# Altium schematic symbol library dungvh03-CERN_Logic.SchLib: 486 symbols (part 20 of 54)
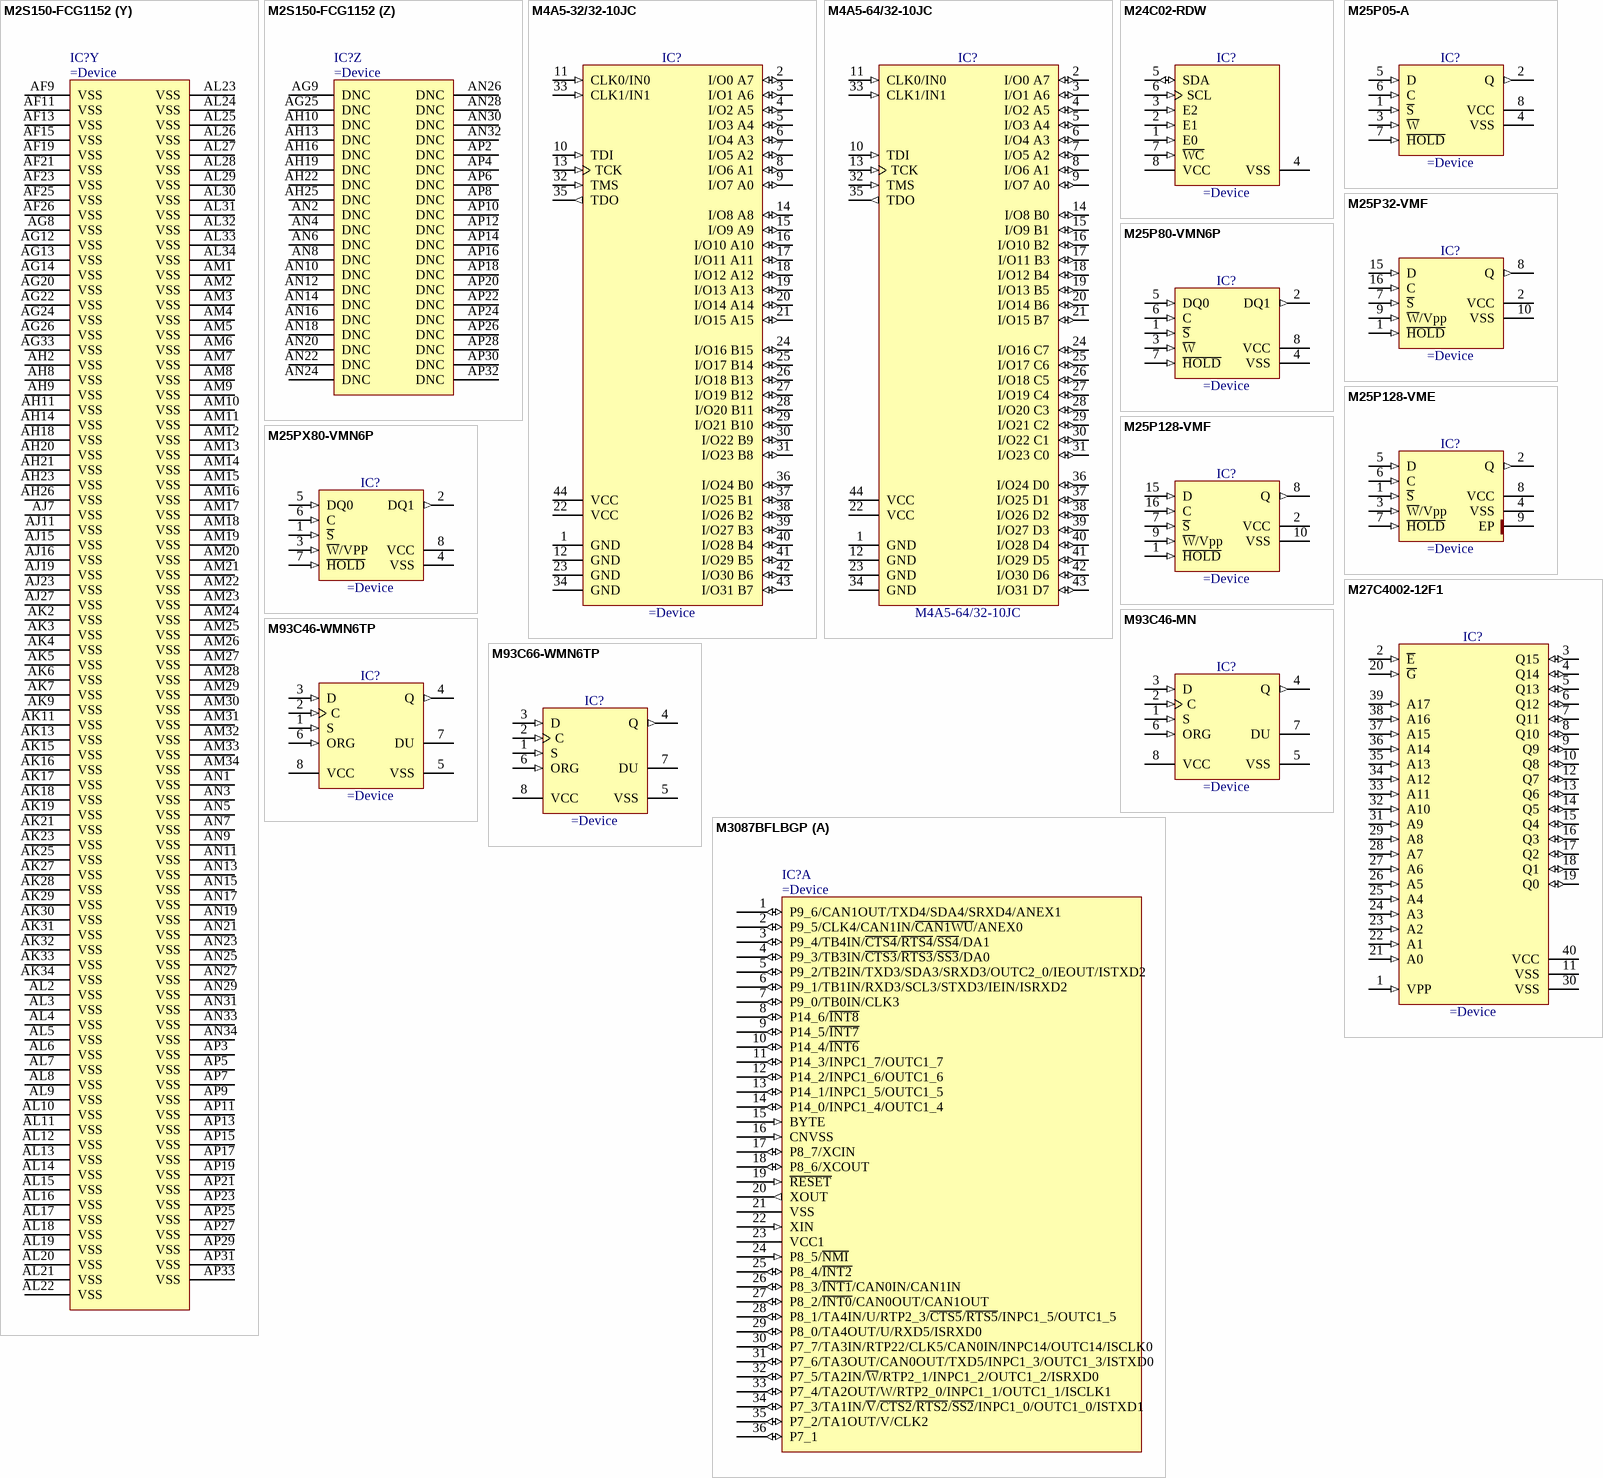
[diagram p280: symbols M2S150-FCG1152 to M3087BFLBGP]
## M2S150-FCG1152
designator IC?
SmartFusion 2 SoC FPGA, ARM Cortex-M3, 150 K LUTs, 574 User I/O, Design Security, 0 to 85 degC, 1152-Ball BGA, RoHS
part A pins: E32 MSIO172NB0 (io) "MSIOs provide programmable drive strength, weak pull-up, and weak-pulldown.In single ended mode, the I/O pair operates as two separate I/Os named P and N. Some of these pins are also multiplexed with integrated peripherals (See Datasheet)", F32 MSIO172PB0/GB0/CCC_NW0_CLKI3 (io), G30 MSIO171PB0/GB4/CCC_NW1_CLKI2 (io), G31 MSIO175NB0 (io) "MSIOs provide programmable drive strength, weak pull-up, and weak-pulldown.In single ended mode, the I/O pair operates as two separate I/Os named P and N. Some of these pins are also multiplexed with integrated peripherals (See Datasheet)", H29 MSIO171NB0 (io) "MSIOs provide programmable drive strength, weak pull-up, and weak-pulldown.In single ended mode, the I/O pair operates as two separate I/Os named P and N. Some of these pins are also multiplexed with integrated peripherals (See Datasheet)", H31 MSIO175PB0 (io) "MSIOs provide programmable drive strength, weak pull-up, and weak-pulldown.In single ended mode, the I/O pair operates as two separate I/Os named P and N. Some of these pins are also multiplexed with integrated peripherals (See Datasheet)", J28 MSIO170NB0 (io) "MSIOs provide programmable drive strength, weak pull-up, and weak-pulldown.In single ended mode, the I/O pair operates as two separate I/Os named P and N. Some of these pins are also multiplexed with integrated peripherals (See Datasheet)", J29 MSIO170PB0/CCC_NW1_CLKI3 (io), K27 MSIO173PB0/CCC_NW0_CLKI2 (io), K28 MSIO173NB0 (io) "MSIOs provide programmable drive strength, weak pull-up, and weak-pulldown.In single ended mode, the I/O pair operates as two separate I/Os named P and N. Some of these pins are also multiplexed with integrated peripherals (See Datasheet)", L25 MSIO174PB0 (io) "MSIOs provide programmable drive strength, weak pull-up, and weak-pulldown.In single ended mode, the I/O pair operates as two separate I/Os named P and N. Some of these pins are also multiplexed with integrated peripherals (See Datasheet)", L26 MSIO174NB0 (io) "MSIOs provide programmable drive strength, weak pull-up, and weak-pulldown.In single ended mode, the I/O pair operates as two separate I/Os named P and N. Some of these pins are also multiplexed with integrated peripherals (See Datasheet)"
part B pins: A18 DDRIO126NB1/FDDR_ADDR15 (io), A19 DDRIO130PB1/FDDR_ODT (io), A21 DDRIO140PB1/FDDR_DQ30 (io), A23 DDRIO141PB1/FDDR_DQ28 (io), A25 DDRIO147PB1/FDDR_DQ21 (io), A27 DDRIO148PB1/FDDR_DM_RDQS2 (io), A29 DDRIO162PB1/FDDR_DQ2 (io), A31 DDRIO164PB1/FDDR_DQ_ECC1 (io), A33 DDRIO165PB1/FDDR_DQ_ECC3 (io), B18 DDRIO126PB1/FDDR_ADDR14 (io), B19 DDRIO130NB1/FDDR_ADDR7 (io), B21 DDRIO140NB1/FDDR_DQ31 (io), B23 DDRIO141NB1/FDDR_DQ29 (io), B25 DDRIO147NB1/FDDR_DQ22 (io), B27 DDRIO148NB1/FDDR_DQ20 (io), B29 DDRIO162NB1/FDDR_DQ3 (io), B31 DDRIO164NB1/FDDR_DQ_ECC0 (io), B33 DDRIO165NB1/FDDR_DQ_ECC2 (io), C19 DDRIO131NB1/FDDR_ADDR6 (io), C20 DDRIO134NB1/FDDR_ADDR0 (io), C21 DDRIO143NB1/FDDR_DQS3_N (io), C22 DDRIO143PB1/FDDR_DQS3 (io), C23 DDRIO144NB1/FDDR_DQ27 (io), C24 DDRIO144PB1/FDDR_DQ26 (io), C25 DDRIO146PB1/FDDR_DQ23 (io), C26 DDRIO149NB1/FDDR_DQS2_N (io), C27 DDRIO151NB1/FDDR_DQ17 (io), C28 DDRIO151PB1/FDDR_DQ16 (io), C29 DDRIO161NB1/FDDR_DQS0_N (io), C30 DDRIO161PB1/FDDR_DQS0 (io), C31 DDRIO167NB1/FDDR_DQS_ECC_N (io), C32 DDRIO167PB1/FDDR_DQS_ECC (io), D18 DDRIO127PB1/FDDR_ADDR12 (io), D19 DDRIO131PB1/FDDR_ADDR5 (io), D20 DDRIO134PB1/FDDR_BA2 (io), D22 DDRIO145PB1/FDDR_DQ24 (io), D24 DDRIO146NB1/FDDR_TMATCH_1_OUT (io), D26 DDRIO149PB1/FDDR_DQS2 (io), D28 DDRIO159PB1/FDDR_DQ5 (io), D30 DDRIO163NB1/FDDR_DQ1 (io), D32 DDRIO169NB1 (io) "The double data input output (DDRIO) is a multi-standard I/O optimized for LPDDR/DDR2/DDR3 performance. In SmartFusion2 devices there are two DDR subsystems: the fabric DDR and MSS DDR controllers. All DDRIOs can be (See Datasheet)", E18 DDRIO127NB1/FDDR_ADDR13 (io), E20 DDRIO136PB1/FDDR_CLK (io), E22 DDRIO145NB1/FDDR_DQ25 (io), E24 DDRIO142PB1/FDDR_TMATCH_1_IN (io), E26 DDRIO150NB1/FDDR_DQ19 (io), E28 DDRIO159NB1/FDDR_DQ6 (io), E30 DDRIO163PB1/FDDR_DQ0 (io), E31 DDRIO169PB1/FDDR_TMATCH_ECC_OUT (io), F18 DDRIO128NB1/FDDR_ADDR11 (io), F19 DDRIO132NB1/FDDR_ADDR4 (io), F20 DDRIO136NB1/FDDR_CLK_N (io), F21 DDRIO137NB1/FDDR_CAS_N (io), F22 DDRIO137PB1/FDDR_RESET_N (io), F23 DDRIO155PB1/FDDR_DQS1 (io), F24 DDRIO142NB1/FDDR_DM_RDQS3 (io), F25 DDRIO152PB1/FDDR_DQ14 (io), F26 DDRIO150PB1/FDDR_DQ18 (io), F27 DDRIO158NB1/FDDR_TMATCH_0_OUT (io), F28 DDRIO158PB1/FDDR_DQ7 (io), F29 DDRIO160NB1/FDDR_DQ4 (io), F30 DDRIO166NB1/FDDR_DM_RDQS_ECC (io), F31 DDRIO166PB1/FDDR_TMATCH_ECC_IN (io), G18 DDRIO129NB1/FDDR_ADDR9 (io), G19 DDRIO128PB1/FDDR_ADDR10 (io), G20 DDRIO132PB1/FDDR_ADDR3 (io), G21 DDRIO135PB1/FDDR_BA0 (io), G23 DDRIO155NB1/FDDR_DQS1_N (io), G25 DDRIO152NB1/FDDR_DQ15 (io), G27 DDRIO154PB1/FDDR_TMATCH_0_IN (io), G29 DDRIO160PB1/FDDR_DM_RDQS0 (io), H18 DDRIO129PB1/FDDR_ADDR8 (io), H20 DDRIO135NB1/FDDR_BA1 (io), H21 DDRIO138NB1/FDDR_CS_N (io), H23 DDRIO157NB1/FDDR_DQ9 (io), H25 DDRIO156NB1/FDDR_DQ11 (io), H27 DDRIO154NB1/FDDR_DM_RDQS1 (io), J19 DDRIO133NB1/FDDR_ADDR2 (io), J20 DDRIO139PB1/FDDR_RAS_N (io), J21 DDRIO138PB1/FDDR_CKE (io), J22 DDRIO153NB1/FDDR_DQ13 (io), J23 DDRIO153PB1/FDDR_DQ12 (io), J24 DDRIO157PB1/FDDR_DQ8 (io), J25 DDRIO156PB1/FDDR_DQ10 (io), J26 DDRIO168NB1 (io) "The double data input output (DDRIO) is a multi-standard I/O optimized for LPDDR/DDR2/DDR3 performance. In SmartFusion2 devices there are two DDR subsystems: the fabric DDR and MSS DDR controllers. All DDRIOs can be (See Datasheet)", J27 DDRIO168PB1 (io) "The double data input output (DDRIO) is a multi-standard I/O optimized for LPDDR/DDR2/DDR3 performance. In SmartFusion2 devices there are two DDR subsystems: the fabric DDR and MSS DDR controllers. All DDRIOs can be (See Datasheet)", K19 DDRIO133PB1/FDDR_ADDR1 (io), K20 DDRIO139NB1/FDDR_WE_N (io)
part C pins: A2 DDRIO82PB2/MDDR_ADDR14 (io), A3 DDRIO86NB2/MDDR_ADDR7 (io), A5 DDRIO88NB2/MDDR_ADDR4 (io), A6 DDRIO87PB2/MDDR_ADDR5 (io), A8 DDRIO97PB2/MDDR_DQ28 (io), A10 DDRIO101PB2/MDDR_DQ24 (io), A12 DDRIO112PB2/MDDR_DQ10 (io), A14 DDRIO115PB2/MDDR_DQ5 (io), A16 DDRIO119PB2/MDDR_DQ0 (io), B2 DDRIO82NB2/MDDR_ADDR15 (io), B3 DDRIO86PB2/MDDR_ODT (io), B4 DDRIO88PB2/MDDR_ADDR3 (io), B5 DDRIO87NB2/MDDR_ADDR6 (io), B6 DDRIO89PB2/MDDR_ADDR1 (io), B8 DDRIO97NB2/MDDR_DQ29 (io), B10 DDRIO101NB2/MDDR_DQ25 (io), B12 DDRIO112NB2/MDDR_DQ11 (io), B14 DDRIO115NB2/MDDR_DQ6 (io), B16 DDRIO119NB2/MDDR_DQ1 (io), C1 DDRIO84NB2/MDDR_ADDR11 (io), C2 DDRIO84PB2/MDDR_ADDR10 (io), C4 DDRIO83NB2/MDDR_ADDR13 (io), C5 DDRIO92PB2/MDDR_CLK (io), C6 DDRIO89NB2/MDDR_ADDR2 (io), C7 DDRIO96PB2/MDDR_DQ30 (io), C8 DDRIO99NB2/MDDR_DQS3_N (io), C9 DDRIO99PB2/MDDR_DQS3 (io), C10 DDRIO100PB2/MDDR_DQ26 (io), C11 DDRIO111NB2/MDDR_DQS1_N (io), C12 DDRIO111PB2/MDDR_DQS1 (io), C13 DDRIO113PB2/MDDR_DQ8 (io), C14 DDRIO117NB2/MDDR_DQS0_N (io), C15 DDRIO117PB2/MDDR_DQS0 (io), C16 DDRIO118PB2/MDDR_DQ2 (io), C17 DDRIO121PB2/MDDR_DQ_ECC3 (io), D2 DDRIO85NB2/MDDR_ADDR9 (io), D3 DDRIO85PB2/MDDR_ADDR8 (io), D4 DDRIO83PB2/MDDR_ADDR12 (io), D5 DDRIO92NB2/MDDR_CLK_N (io), D7 DDRIO96NB2/MDDR_DQ31 (io), D9 DDRIO100NB2/MDDR_DQ27 (io), D11 DDRIO109PB2/MDDR_DQ12 (io), D13 DDRIO113NB2/MDDR_DQ9 (io), D15 DDRIO118NB2/MDDR_DQ3 (io), D17 DDRIO121NB2/MDDR_DQ_ECC2 (io), E5 DDRIO91PB2/MDDR_BA0 (io), E6 DDRIO90NB2/MDDR_ADDR0 (io), E7 DDRIO95PB2/MDDR_RAS_N (io), E9 DDRIO98PB2/MDDR_TMATCH_1_IN (io), E11 DDRIO109NB2/MDDR_DQ13 (io), E13 DDRIO114NB2/MDDR_TMATCH_0_OUT (io), E15 DDRIO116NB2/MDDR_DQ4 (io), E17 DDRIO123NB2/MDDR_DQS_ECC_N (io), F5 DDRIO91NB2/MDDR_BA1 (io), F6 DDRIO90PB2/MDDR_BA2 (io), F7 DDRIO95NB2/MDDR_WE_N (io), F8 DDRIO98NB2/MDDR_DM_RDQS3 (io), F9 DDRIO102NB2/MDDR_TMATCH_1_OUT (io), F10 DDRIO108NB2/MDDR_DQ15 (io), F11 DDRIO108PB2/MDDR_DQ14 (io), F12 DDRIO110NB2/MDDR_DM_RDQS1 (io), F13 DDRIO110PB2/MDDR_TMATCH_0_IN (io), F14 DDRIO114PB2/MDDR_DQ7 (io), F15 DDRIO116PB2/MDDR_DM_RDQS0 (io), F16 DDRIO120PB2/MDDR_DQ_ECC1/GB12/CCC_NE1_CLKI2 (io), F17 DDRIO123PB2/MDDR_DQS_ECC (io), G7 DDRIO93NB2/MDDR_CAS_N (io), G8 DDRIO93PB2/MDDR_RESET_N (io), G10 DDRIO102PB2/MDDR_DQ23 (io), G12 DDRIO105PB2/MDDR_DQS2 (io), G14 DDRIO107PB2/MDDR_DQ16 (io), G16 DDRIO120NB2/MDDR_DQ_ECC0/CCC_NE1_CLKI3 (io), H8 DDRIO94PB2/MDDR_CKE (io), H10 DDRIO103PB2/MDDR_DQ21 (io), H12 DDRIO105NB2/MDDR_DQS2_N (io), H14 DDRIO107NB2/MDDR_DQ17 (io), H16 DDRIO122PB2/MDDR_TMATCH_ECC_IN (io), J9 DDRIO94NB2/MDDR_CS_N (io), J10 DDRIO103NB2/MDDR_DQ22 (io), J11 DDRIO104NB2/MDDR_DQ20 (io), J12 DDRIO104PB2/MDDR_DM_RDQS2 (io), J13 DDRIO106NB2/MDDR_DQ19 (io), J14 DDRIO106PB2/MDDR_DQ18 (io), J15 DDRIO122NB2/MDDR_DM_RDQS_ECC (io), J16 DDRIO125PB2/MDDR_TMATCH_ECC_OUT (io), J17 DDRIO124NB2/GB8/CCC_NE0_CLKI3 (io), J18 DDRIO124PB2/CCC_NE0_CLKI2 (io), K17 DDRIO125NB2 (io) "The double data input output (DDRIO) is a multi-standard I/O optimized for LPDDR/DDR2/DDR3 performance. In SmartFusion2 devices there are two DDR subsystems: the fabric DDR and MSS DDR controllers. All DDRIOs can be (See Datasheet)"
part D pins: D1 MSIO62NB3/USB_NXT_D (io), E1 MSIO62PB3/USB_STP_D (io), E2 MSIO74PB3/USB_XCLK_C (io), E3 MSIO74NB3/MMUART_1_TXD/GPIO_24_B/USB_DATA2_C (io), F2 MSIO73PB3/MMUART_1_RI/GPIO_15_B (io), F3 MSIO73NB3/MMUART_1_DCD/GPIO_16_B (io), F4 MSIO79PB3 (io) "MSIOs provide programmable drive strength, weak pull-up, and weak-pulldown.In single ended mode, the I/O pair operates as two separate I/Os named P and N. Some of these pins are also multiplexed with integrated peripherals (See Datasheet)", G1 MSIO61NB3/USB_DIR_D (io), G2 MSIO69PB3/GPIO_7_B (io), G3 MSIO69NB3/GPIO_8_B (io), G5 MSIO79NB3/MMUART_0_TXD/GPIO_27_B/USB_DIR_C (io), H1 MSIO61PB3/USB_XCLK_D (io), H3 MSIO70PB3/GPIO_9_B (io), H4 MSIO70NB3/GPIO_10_B (io), H5 MSIO77PB3/MMUART_0_CTS/GPIO_19_B/USB_DATA7_C (io), H6 MSIO77NB3/MMUART_0_DSR/GPIO_20_B (io), H7 MSIO80PB3/MMUART_0_RXD/GPIO_28_B/USB_STP_C (io), J3 MSIO65PB3/USB_DATA4_D (io), J4 MSIO65NB3/USB_DATA5_D (io), J6 MSIO78PB3/MMUART_0_RI/GPIO_21_B (io), J7 MSIO78NB3/MMUART_0_DCD/GPIO_22_B (io), J8 MSIO80NB3/MMUART_0_CLK/GPIO_29_B/USB_NXT_C (io), K4 MSIO66PB3/USB_DATA6_D (io), K5 MSIO66NB3/USB_DATA7_D/GPIO_23_B (io), K6 MSIO72PB3/GPIO_13_B/MMUART_1_CTS (io), K7 MSIO72NB3/MMUART_1_DSR/GPIO_14_B (io), K9 MSIO81PB3/I2C_0_SDA/GPIO_30_B/USB_DATA0_C (io), K10 MSIO81NB3/I2C_0_SCL/GPIO_31_B/USB_DATA1_C (io), L7 MSIO68PB3/GPIO_5_B (io), L8 MSIO68NB3/GPIO_6_B (io), L9 MSIO75PB3/MMUART_1_CLK/GPIO_25_B/USB_DATA4_C (io), L10 MSIO75NB3/MMUART_1_RXD/GPIO_26_B/USB_DATA3_C (io), M8 MSIO63NB3/USB_DATA1_D (io), M10 MSIO76PB3/MMUART_0_RTS/GPIO_17_B/USB_DATA5_C (io), M11 MSIO76NB3/MMUART_0_DTR/GPIO_18_B/USB_DATA6_C (io), N8 MSIO63PB3/USB_DATA0_D (io), N9 MSIO67PB3/GPIO_3_B (io), N10 MSIO67NB3/GPIO_4_B (io), N11 MSIO71NB3/MMUART_1_DTR/GPIO_12_B (io), N12 MSIO71PB3/MMUART_1_RTS/GPIO_11_B (io), P11 MSIO64NB3/USB_DATA3_D (io), P12 MSIO64PB3/USB_DATA2_D (io)
part E pins: J1 MSIO56PB4/SPI_0_SS3/GPIO_10_A/USB_DATA7_A (io), J2 MSIO56NB4/SPI_1_SS1/GPIO_14_A (io), K1 MSIO47PB4/SPI_0_SDO/GPIO_6_A/USB_STP_A (io), K2 MSIO47NB4/SPI_0_SS0/GPIO_7_A/USB_NXT_A (io), L2 MSIO51PB4/SPI_1_SDO/GPIO_12_A (io), L3 MSIO51NB4/SPI_1_SS0/GPIO_13_A (io), L4 MSIO59PB4/GPIO_31_A (io), L5 MSIO59NB4/GPIO_0_B (io), M1 MSIO40NB4 (io) "MSIOs provide programmable drive strength, weak pull-up, and weak-pulldown.In single ended mode, the I/O pair operates as two separate I/Os named P and N. Some of these pins are also multiplexed with integrated peripherals (See Datasheet)", M2 MSIO48PB4/SPI_0_SS4/GPIO_19_A (io), M3 MSIO48NB4/SPI_0_SS5/GPIO_20_A (io), M5 MSIO55NB4/SPI_0_SS2/GPIO_9_A/USB_DATA6_A (io), M6 MSIO60PB4/GPIO_1_B (io), M7 MSIO60NB4/GPIO_2_B (io), N1 MSIO40PB4/CCC_NE1_CLKI1 (io), N3 MSIO49NB4/SPI_0_SS7/GPIO_22_A (io), N4 MSIO49PB4/SPI_0_SS6/GPIO_21_A (io), N5 MSIO55PB4/SPI_0_SS1/GPIO_8_A/USB_DATA5_A (io), N6 MSIO53NB4/SPI_1_SS7/GPIO_24_A (io), P1 MSIO39PB4/CCC_NE0_CLKI1 (io), P2 MSIO39NB4 (io) "MSIOs provide programmable drive strength, weak pull-up, and weak-pulldown.In single ended mode, the I/O pair operates as two separate I/Os named P and N. Some of these pins are also multiplexed with integrated peripherals (See Datasheet)", P3 MSIO43PB4 (io) "MSIOs provide programmable drive strength, weak pull-up, and weak-pulldown.In single ended mode, the I/O pair operates as two separate I/Os named P and N. Some of these pins are also multiplexed with integrated peripherals (See Datasheet)", P4 MSIO43NB4/CAN_TX/GPIO_2_A/USB_DATA0_A (io), P6 MSIO53PB4/SPI_1_SS6/GPIO_23_A (io), P7 MSIO52NB4/SPI_1_SS5/GPIO_18_A (io), P8 MSIO58PB4/GPIO_29_A (io), P9 MSIO58NB4/GPIO_30_A (io), R5 MSIO44PB4/CAN_RX/GPIO_3_A/USB_DATA1_A (io), R6 MSIO44NB4/CAN_TX_EN_N/GPIO_4_A/USB_DATA2_A (io), R7 MSIO52PB4/SPI_1_SS4/GPIO_17_A (io), R9 MSIO54PB4/GPIO_25_A (io), R10 MSIO54NB4/GPIO_26_A (io), R11 MSIO57NB4/SPI_1_SS3/GPIO_16_A (io), R12 MSIO57PB4/SPI_1_SS2/GPIO_15_A (io), T7 MSIO41NB4 (io) "MSIOs provide programmable drive strength, weak pull-up, and weak-pulldown.In single ended mode, the I/O pair operates as two separate I/Os named P and N. Some of these pins are also multiplexed with integrated peripherals (See Datasheet)", T8 MSIO45NB4/I2C_1_SCL/GPIO_1_A/USB_DATA4_A (io), T9 MSIO45PB4/I2C_1_SDA/GPIO_0_A/USB_DATA3_A (io), T10 MSIO50NB4/SPI_1_SDI/GPIO_11_A (io), T11 MSIO50PB4/SPI_1_CLK (io), T12 MSIO46NB4/SPI_0_SDI/GPIO_5_A/USB_DIR_A (io), U7 MSIO41PB4/GB10/CCC_SE0_CLKI1 (io), U10 MSIO42PB4/GB14/CCC_SE1_CLKI1 (io), U11 MSIO42NB4 (io) "MSIOs provide programmable drive strength, weak pull-up, and weak-pulldown.In single ended mode, the I/O pair operates as two separate I/Os named P and N. Some of these pins are also multiplexed with integrated peripherals (See Datasheet)", U12 MSIO46PB4/SPI_0_CLK/USB_XCLK_A (io)
part F pins: R1 MSIO32PB5/USB_DATA4_B (io), R2 MSIO32NB5/USB_DATA5_B (io), R4 MSIO38NB5 (io) "MSIOs provide programmable drive strength, weak pull-up, and weak-pulldown.In single ended mode, the I/O pair operates as two separate I/Os named P and N. Some of these pins are also multiplexed with integrated peripherals (See Datasheet)", T2 MSIO31PB5/USB_DATA2_B (io), T3 MSIO31NB5/USB_DATA3_B (io), T4 MSIO38PB5/GB13/CCC_SE1_CLKI0 (io), T5 MSIO37NB5 (io) "MSIOs provide programmable drive strength, weak pull-up, and weak-pulldown.In single ended mode, the I/O pair operates as two separate I/Os named P and N. Some of these pins are also multiplexed with integrated peripherals (See Datasheet)", U1 MSIO26NB5/GPIO_28_A (io), U2 MSIO29PB5/USB_STP_B (io), U3 MSIO29NB5/USB_NXT_B (io), U5 MSIO37PB5/GB9/CCC_SE0_CLKI0 (io), U6 MSIO33NB5 (io) "MSIOs provide programmable drive strength, weak pull-up, and weak-pulldown.In single ended mode, the I/O pair operates as two separate I/Os named P and N. Some of these pins are also multiplexed with integrated peripherals (See Datasheet)", U8 MSIO36NB5 (io) "MSIOs provide programmable drive strength, weak pull-up, and weak-pulldown.In single ended mode, the I/O pair operates as two separate I/Os named P and N. Some of these pins are also multiplexed with integrated peripherals (See Datasheet)", V1 MSIO26PB5/GPIO_27_A (io), V3 MSIO25NB5 (io) "MSIOs provide programmable drive strength, weak pull-up, and weak-pulldown.In single ended mode, the I/O pair operates as two separate I/Os named P and N. Some of these pins are also multiplexed with integrated peripherals (See Datasheet)", V4 MSIO30PB5/USB_DATA0_B (io), V5 MSIO30NB5/USB_DATA1_B (io), V6 MSIO33PB5/USB_DATA6_B (io), V8 MSIO36PB5/CCC_NE1_CLKI0 (io), V9 MSIO34PB5 (io) "MSIOs provide programmable drive strength, weak pull-up, and weak-pulldown.In single ended mode, the I/O pair operates as two separate I/Os named P and N. Some of these pins are also multiplexed with integrated peripherals (See Datasheet)", V10 MSIO34NB5 (io) "MSIOs provide programmable drive strength, weak pull-up, and weak-pulldown.In single ended mode, the I/O pair operates as two separate I/Os named P and N. Some of these pins are also multiplexed with integrated peripherals (See Datasheet)", V11 MSIO35NB5 (io) "MSIOs provide programmable drive strength, weak pull-up, and weak-pulldown.In single ended mode, the I/O pair operates as two separate I/Os named P and N. Some of these pins are also multiplexed with integrated peripherals (See Datasheet)", V12 MSIO35PB5/CCC_NE0_CLKI0 (io), W1 MSIO20PB5 (io) "MSIOs provide programmable drive strength, weak pull-up, and weak-pulldown.In single ended mode, the I/O pair operates as two separate I/Os named P and N. Some of these pins are also multiplexed with integrated peripherals (See Datasheet)", W2 MSIO20NB5 (io) "MSIOs provide programmable drive strength, weak pull-up, and weak-pulldown.In single ended mode, the I/O pair operates as two separate I/Os named P and N. Some of these pins are also multiplexed with integrated peripherals (See Datasheet)", W3 MSIO25PB5 (io) "MSIOs provide programmable drive strength, weak pull-up, and weak-pulldown.In single ended mode, the I/O pair operates as two separate I/Os named P and N. Some of these pins are also multiplexed with integrated peripherals (See Datasheet)", W4 MSIO24NB5 (io) "MSIOs provide programmable drive strength, weak pull-up, and weak-pulldown.In single ended mode, the I/O pair operates as two separate I/Os named P and N. Some of these pins are also multiplexed with integrated peripherals (See Datasheet)", W6 MSIO23PB5 (io) "MSIOs provide programmable drive strength, weak pull-up, and weak-pulldown.In single ended mode, the I/O pair operates as two separate I/Os named P and N. Some of these pins are also multiplexed with integrated peripherals (See Datasheet)", W7 MSIO23NB5 (io) "MSIOs provide programmable drive strength, weak pull-up, and weak-pulldown.In single ended mode, the I/O pair operates as two separate I/Os named P and N. Some of these pins are also multiplexed with integrated peripherals (See Datasheet)", W8 MSIO27PB5 (io) "MSIOs provide programmable drive strength, weak pull-up, and weak-pulldown.In single ended mode, the I/O pair operates as two separate I/Os named P and N. Some of these pins are also multiplexed with integrated peripherals (See Datasheet)", W9 MSIO27NB5/USB_DATA7_B (io), W11 MSIO28NB5/USB_DIR_B (io), W12 MSIO28PB5/USB_XCLK_B (io), Y1 MSIO19NB5 (io) "MSIOs provide programmable drive strength, weak pull-up, and weak-pulldown.In single ended mode, the I/O pair operates as two separate I/Os named P and N. Some of these pins are also multiplexed with integrated peripherals (See Datasheet)", Y2 MSIO19PB5 (io) "MSIOs provide programmable drive strength, weak pull-up, and weak-pulldown.In single ended mode, the I/O pair operates as two separate I/Os named P and N. Some of these pins are also multiplexed with integrated peripherals (See Datasheet)", Y4 MSIO24PB5 (io) "MSIOs provide programmable drive strength, weak pull-up, and weak-pulldown.In single ended mode, the I/O pair operates as two separate I/Os named P and N. Some of these pins are also multiplexed with integrated peripherals (See Datasheet)", Y5 MSIO18NB5 (io) "MSIOs provide programmable drive strength, weak pull-up, and weak-pulldown.In single ended mode, the I/O pair operates as two separate I/Os named P and N. Some of these pins are also multiplexed with integrated peripherals (See Datasheet)", Y6 MSIO18PB5 (io) "MSIOs provide programmable drive strength, weak pull-up, and weak-pulldown.In single ended mode, the I/O pair operates as two separate I/Os named P and N. Some of these pins are also multiplexed with integrated peripherals (See Datasheet)", Y9 MSIO22NB5 (io) "MSIOs provide programmable drive strength, weak pull-up, and weak-pulldown.In single ended mode, the I/O pair operates as two separate I/Os named P and N. Some of these pins are also multiplexed with integrated peripherals (See Datasheet)", Y10 MSIO22PB5 (io) "MSIOs provide programmable drive strength, weak pull-up, and weak-pulldown.In single ended mode, the I/O pair operates as two separate I/Os named P and N. Some of these pins are also multiplexed with integrated peripherals (See Datasheet)", Y11 MSIO21NB5 (io) "MSIOs provide programmable drive strength, weak pull-up, and weak-pulldown.In single ended mode, the I/O pair operates as two separate I/Os named P and N. Some of these pins are also multiplexed with integrated peripherals (See Datasheet)", Y12 MSIO21PB5 (io) "MSIOs provide programmable drive strength, weak pull-up, and weak-pulldown.In single ended mode, the I/O pair operates as two separate I/Os named P and N. Some of these pins are also multiplexed with integrated peripherals (See Datasheet)"
part G pins: AA2 MSIO17NB6 (io) "MSIOs provide programmable drive strength, weak pull-up, and weak-pulldown.In single ended mode, the I/O pair operates as two separate I/Os named P and N. Some of these pins are also multiplexed with integrated peripherals (See Datasheet)", AA3 MSIO17PB6 (io) "MSIOs provide programmable drive strength, weak pull-up, and weak-pulldown.In single ended mode, the I/O pair operates as two separate I/Os named P and N. Some of these pins are also multiplexed with integrated peripherals (See Datasheet)", AA4 MSIO12PB6 (io) "MSIOs provide programmable drive strength, weak pull-up, and weak-pulldown.In single ended mode, the I/O pair operates as two separate I/Os named P and N. Some of these pins are also multiplexed with integrated peripherals (See Datasheet)", AA5 MSIO12NB6 (io) "MSIOs provide programmable drive strength, weak pull-up, and weak-pulldown.In single ended mode, the I/O pair operates as two separate I/Os named P and N. Some of these pins are also multiplexed with integrated peripherals (See Datasheet)", AA7 MSIO15PB6 (io) "MSIOs provide programmable drive strength, weak pull-up, and weak-pulldown.In single ended mode, the I/O pair operates as two separate I/Os named P and N. Some of these pins are also multiplexed with integrated peripherals (See Datasheet)", AA8 MSIO13PB6 (io) "MSIOs provide programmable drive strength, weak pull-up, and weak-pulldown.In single ended mode, the I/O pair operates as two separate I/Os named P and N. Some of these pins are also multiplexed with integrated peripherals (See Datasheet)", AA9 MSIO13NB6 (io) "MSIOs provide programmable drive strength, weak pull-up, and weak-pulldown.In single ended mode, the I/O pair operates as two separate I/Os named P and N. Some of these pins are also multiplexed with integrated peripherals (See Datasheet)", AA10 MSIO11NB6 (io) "MSIOs provide programmable drive strength, weak pull-up, and weak-pulldown.In single ended mode, the I/O pair operates as two separate I/Os named P and N. Some of these pins are also multiplexed with integrated peripherals (See Datasheet)", AA11 MSIO14NB6 (io) "MSIOs provide programmable drive strength, weak pull-up, and weak-pulldown.In single ended mode, the I/O pair operates as two separate I/Os named P and N. Some of these pins are also multiplexed with integrated peripherals (See Datasheet)", AA12 MSIO14PB6 (io) "MSIOs provide programmable drive strength, weak pull-up, and weak-pulldown.In single ended mode, the I/O pair operates as two separate I/Os named P and N. Some of these pins are also multiplexed with integrated peripherals (See Datasheet)", AB1 MSIO16NB6 (io) "MSIOs provide programmable drive strength, weak pull-up, and weak-pulldown.In single ended mode, the I/O pair operates as two separate I/Os named P and N. Some of these pins are also multiplexed with integrated peripherals (See Datasheet)", AB2 MSIO16PB6 (io) "MSIOs provide programmable drive strength, weak pull-up, and weak-pulldown.In single ended mode, the I/O pair operates as two separate I/Os named P and N. Some of these pins are also multiplexed with integrated peripherals (See Datasheet)", AB3 MSIO10NB6 (io) "MSIOs provide programmable drive strength, weak pull-up, and weak-pulldown.In single ended mode, the I/O pair operates as two separate I/Os named P and N. Some of these pins are also multiplexed with integrated peripherals (See Datasheet)", AB5 MSIO7PB6 (io) "MSIOs provide programmable drive strength, weak pull-up, and weak-pulldown.In single ended mode, the I/O pair operates as two separate I/Os named P and N. Some of these pins are also multiplexed with integrated peripherals (See Datasheet)", AB6 MSIO7NB6 (io) "MSIOs provide programmable drive strength, weak pull-up, and weak-pulldown.In single ended mode, the I/O pair operates as two separate I/Os named P and N. Some of these pins are also multiplexed with integrated peripherals (See Datasheet)", AB7 MSIO8NB6 (io) "MSIOs provide programmable drive strength, weak pull-up, and weak-pulldown.In single ended mode, the I/O pair operates as two separate I/Os named P and N. Some of these pins are also multiplexed with integrated peripherals (See Datasheet)", AB8 MSIO8PB6 (io) "MSIOs provide programmable drive strength, weak pull-up, and weak-pulldown.In single ended mode, the I/O pair operates as two separate I/Os named P and N. Some of these pins are also multiplexed with integrated peripherals (See Datasheet)", AB10 MSIO11PB6 (io) "MSIOs provide programmable drive strength, weak pull-up, and weak-pulldown.In single ended mode, the I/O pair operates as two separate I/Os named P and N. Some of these pins are also multiplexed with integrated peripherals (See Datasheet)", AC1 MSIO9NB6 (io) "MSIOs provide programmable drive strength, weak pull-up, and weak-pulldown.In single ended mode, the I/O pair operates as two separate I/Os named P and N. Some of these pins are also multiplexed with integrated peripherals (See Datasheet)", AC3 MSIO10PB6 (io) "MSIOs provide programmable drive strength, weak pull-up, and weak-pulldown.In single ended mode, the I/O pair operates as two separate I/Os named P and N. Some of these pins are also multiplexed with integrated peripherals (See Datasheet)", AC4 MSIO6NB6 (io) "MSIOs provide programmable drive strength, weak pull-up, and weak-pulldown.In single ended mode, the I/O pair operates as two separate I/Os named P and N. Some of these pins are also multiplexed with integrated peripherals (See Datasheet)", AC5 MSIO6PB6 (io) "MSIOs provide programmable drive strength, weak pull-up, and weak-pulldown.In single ended mode, the I/O pair operates as two separate I/Os named P and N. Some of these pins are also multiplexed with integrated peripherals (See Datasheet)", AC8 MSIO3NB6 (io) "MSIOs provide programmable drive strength, weak pull-up, and weak-pulldown.In single ended mode, the I/O pair operates as two separate I/Os named P and N. Some of these pins are also multiplexed with integrated peripherals (See Datasheet)", AC9 MSIO3PB6 (io) "MSIOs provide programmable drive strength, weak pull-up, and weak-pulldown.In single ended mode, the I/O pair operates as two separate I/Os named P and N. Some of these pins are also multiplexed with integrated peripherals (See Datasheet)", AD1 MSIO9PB6 (io) "MSIOs provide programmable drive strength, weak pull-up, and weak-pulldown.In single ended mode, the I/O pair operates as two separate I/Os named P and N. Some of these pins are also multiplexed with integrated peripherals (See Datasheet)", AD2 MSIO5NB6 (io) "MSIOs provide programmable drive strength, weak pull-up, and weak-pulldown.In single ended mode, the I/O pair operates as two separate I/Os named P and N. Some of these pins are also multiplexed with integrated peripherals (See Datasheet)", AD3 MSIO5PB6 (io) "MSIOs provide programmable drive strength, weak pull-up, and weak-pulldown.In single ended mode, the I/O pair operates as two separate I/Os named P and N. Some of these pins are also multiplexed with integrated peripherals (See Datasheet)", AD4 MSIO4NB6 (io) "MSIOs provide programmable drive strength, weak pull-up, and weak-pulldown.In single ended mode, the I/O pair operates as two separate I/Os named P and N. Some of these pins are also multiplexed with integrated peripherals (See Datasheet)", AE4 MSIO4PB6 (io) "MSIOs provide programmable drive strength, weak pull-up, and weak-pulldown.In single ended mode, the I/O pair operates as two separate I/Os named P and N. Some of these pins are also multiplexed with integrated peripherals (See Datasheet)", Y7 MSIO15NB6 (io) "MSIOs provide programmable drive strength, weak pull-up, and weak-pulldown.In single ended mode, the I/O pair operates as two separate I/Os named P and N. Some of these pins are also multiplexed with integrated peripherals (See Datasheet)"
part H pins: AD7 MSIO289NB8 (io) "MSIOs provide programmable drive strength, weak pull-up, and weak-pulldown.In single ended mode, the I/O pair operates as two separate I/Os named P and N. Some of these pins are also multiplexed with integrated peripherals (See Datasheet)", AE6 MSIO288PB8 (io) "MSIOs provide programmable drive strength, weak pull-up, and weak-pulldown.In single ended mode, the I/O pair operates as two separate I/Os named P and N. Some of these pins are also multiplexed with integrated peripherals (See Datasheet)", AE7 MSIO289PB8 (io) "MSIOs provide programmable drive strength, weak pull-up, and weak-pulldown.In single ended mode, the I/O pair operates as two separate I/Os named P and N. Some of these pins are also multiplexed with integrated peripherals (See Datasheet)", AF5 MSIO288NB8 (io) "MSIOs provide programmable drive strength, weak pull-up, and weak-pulldown.In single ended mode, the I/O pair operates as two separate I/Os named P and N. Some of these pins are also multiplexed with integrated peripherals (See Datasheet)", AF7 MSIO284NB8 (io) "MSIOs provide programmable drive strength, weak pull-up, and weak-pulldown.In single ended mode, the I/O pair operates as two separate I/Os named P and N. Some of these pins are also multiplexed with integrated peripherals (See Datasheet)", AG3 MSIO287PB8 (io) "MSIOs provide programmable drive strength, weak pull-up, and weak-pulldown.In single ended mode, the I/O pair operates as two separate I/Os named P and N. Some of these pins are also multiplexed with integrated peripherals (See Datasheet)", AG4 MSIO287NB8 (io) "MSIOs provide programmable drive strength, weak pull-up, and weak-pulldown.In single ended mode, the I/O pair operates as two separate I/Os named P and N. Some of these pins are also multiplexed with integrated peripherals (See Datasheet)", AG5 MSIO286NB8 (io) "MSIOs provide programmable drive strength, weak pull-up, and weak-pulldown.In single ended mode, the I/O pair operates as two separate I/Os named P and N. Some of these pins are also multiplexed with integrated peripherals (See Datasheet)", AG6 MSIO286PB8 (io) "MSIOs provide programmable drive strength, weak pull-up, and weak-pulldown.In single ended mode, the I/O pair operates as two separate I/Os named P and N. Some of these pins are also multiplexed with integrated peripherals (See Datasheet)", AG7 MSIO284PB8 (io) "MSIOs provide programmable drive strength, weak pull-up, and weak-pulldown.In single ended mode, the I/O pair operates as two separate I/Os named P and N. Some of these pins are also multiplexed with integrated peripherals (See Datasheet)", AH3 MSIO285NB8 (io) "MSIOs provide programmable drive strength, weak pull-up, and weak-pulldown.In single ended mode, the I/O pair operates as two separate I/Os named P and N. Some of these pins are also multiplexed with integrated peripherals (See Datasheet)", AH5 MSIO283NB8 (io) "MSIOs provide programmable drive strength, weak pull-up, and weak-pulldown.In single ended mode, the I/O pair operates as two separate I/Os named P and N. Some of these pins are also multiplexed with integrated peripherals (See Datasheet)", AH6 MSIO283PB8 (io) "MSIOs provide programmable drive strength, weak pull-up, and weak-pulldown.In single ended mode, the I/O pair operates as two separate I/Os named P and N. Some of these pins are also multiplexed with integrated peripherals (See Datasheet)", AJ2 MSIO285PB8 (io) "MSIOs provide programmable drive strength, weak pull-up, and weak-pulldown.In single ended mode, the I/O pair operates as two separate I/Os named P and N. Some of these pins are also multiplexed with integrated peripherals (See Datasheet)", AJ3 MSIO282NB8 (io) "MSIOs provide programmable drive strength, weak pull-up, and weak-pulldown.In single ended mode, the I/O pair operates as two separate I/Os named P and N. Some of these pins are also multiplexed with integrated peripherals (See Datasheet)", AJ4 MSIO282PB8/CCC_SE1_CLKI3 (io), AJ5 MSIO281NB8 (io) "MSIOs provide programmable drive strength, weak pull-up, and weak-pulldown.In single ended mode, the I/O pair operates as two separate I/Os named P and N. Some of these pins are also multiplexed with integrated peripherals (See Datasheet)", AJ6 MSIO281PB8/GB15/CCC_SE1_CLKI2 (io)
part I pins: AJ8 MSIOD280PB9 (io) "MSIOD is very similar to MSIO, but drops 3.3 V and hot-plug support and adds pre-emphasis, in order to achieve higher speeds. MSIODs provide programmable drive strength, weak pull-up, and weak pull-down. MSIOD I/O cells (See Datasheet)", AJ10 MSIOD279PB9 (io) "MSIOD is very similar to MSIO, but drops 3.3 V and hot-plug support and adds pre-emphasis, in order to achieve higher speeds. MSIODs provide programmable drive strength, weak pull-up, and weak pull-down. MSIOD I/O cells (See Datasheet)", AK8 MSIOD280NB9 (io) "MSIOD is very similar to MSIO, but drops 3.3 V and hot-plug support and adds pre-emphasis, in order to achieve higher speeds. MSIODs provide programmable drive strength, weak pull-up, and weak pull-down. MSIOD I/O cells (See Datasheet)", AK10 MSIOD279NB9 (io) "MSIOD is very similar to MSIO, but drops 3.3 V and hot-plug support and adds pre-emphasis, in order to achieve higher speeds. MSIODs provide programmable drive strength, weak pull-up, and weak pull-down. MSIOD I/O cells (See Datasheet)"
part J pins: AJ12 MSIOD278NB10 (io) "MSIOD is very similar to MSIO, but drops 3.3 V and hot-plug support and adds pre-emphasis, in order to achieve higher speeds. MSIODs provide programmable drive strength, weak pull-up, and weak pull-down. MSIOD I/O cells (See Datasheet)", AJ14 MSIOD277NB10 (io) "MSIOD is very similar to MSIO, but drops 3.3 V and hot-plug support and adds pre-emphasis, in order to achieve higher speeds. MSIODs provide programmable drive strength, weak pull-up, and weak pull-down. MSIOD I/O cells (See Datasheet)", AK12 MSIOD278PB10 (io) "MSIOD is very similar to MSIO, but drops 3.3 V and hot-plug support and adds pre-emphasis, in order to achieve higher speeds. MSIODs provide programmable drive strength, weak pull-up, and weak pull-down. MSIOD I/O cells (See Datasheet)", AK14 MSIOD277PB10 (io) "MSIOD is very similar to MSIO, but drops 3.3 V and hot-plug support and adds pre-emphasis, in order to achieve higher speeds. MSIODs provide programmable drive strength, weak pull-up, and weak pull-down. MSIOD I/O cells (See Datasheet)"
part K pins: AE17 MSIO275PB11/CCC_SE0_CLKI2 (io), AF16 MSIO276PB11/GB11/CCC_SE0_CLKI3 (io), AF17 MSIO275NB11 (io) "MSIOs provide programmable drive strength, weak pull-up, and weak-pulldown.In single ended mode, the I/O pair operates as two separate I/Os named P and N. Some of these pins are also multiplexed with integrated peripherals (See Datasheet)", AF18 MSIO274PB11/GB7/CCC_SW1_CLKI2 (io), AG16 MSIO276NB11 (io) "MSIOs provide programmable drive strength, weak pull-up, and weak-pulldown.In single ended mode, the I/O pair operates as two separate I/Os named P and N. Some of these pins are also multiplexed with integrated peripherals (See Datasheet)", AG18 MSIO274NB11/CCC_SW1_CLKI3 (io), AH17 MSIO273PB11/PROBE_A (io), AJ17 MSIO273NB11/PROBE_B (io)
part L pins: AJ20 MSIOD272PB12 (io) "MSIOD is very similar to MSIO, but drops 3.3 V and hot-plug support and adds pre-emphasis, in order to achieve higher speeds. MSIODs provide programmable drive strength, weak pull-up, and weak pull-down. MSIOD I/O cells (See Datasheet)", AJ22 MSIOD271PB12 (io) "MSIOD is very similar to MSIO, but drops 3.3 V and hot-plug support and adds pre-emphasis, in order to achieve higher speeds. MSIODs provide programmable drive strength, weak pull-up, and weak pull-down. MSIOD I/O cells (See Datasheet)", AK20 MSIOD272NB12 (io) "MSIOD is very similar to MSIO, but drops 3.3 V and hot-plug support and adds pre-emphasis, in order to achieve higher speeds. MSIODs provide programmable drive strength, weak pull-up, and weak pull-down. MSIOD I/O cells (See Datasheet)", AK22 MSIOD271NB12 (io) "MSIOD is very similar to MSIO, but drops 3.3 V and hot-plug support and adds pre-emphasis, in order to achieve higher speeds. MSIODs provide programmable drive strength, weak pull-up, and weak pull-down. MSIOD I/O cells (See Datasheet)"
part M pins: AJ24 MSIOD270PB13 (io) "MSIOD is very similar to MSIO, but drops 3.3 V and hot-plug support and adds pre-emphasis, in order to achieve higher speeds. MSIODs provide programmable drive strength, weak pull-up, and weak pull-down. MSIOD I/O cells (See Datasheet)", AJ26 MSIOD269PB13 (io) "MSIOD is very similar to MSIO, but drops 3.3 V and hot-plug support and adds pre-emphasis, in order to achieve higher speeds. MSIODs provide programmable drive strength, weak pull-up, and weak pull-down. MSIOD I/O cells (See Datasheet)", AK24 MSIOD270NB13 (io) "MSIOD is very similar to MSIO, but drops 3.3 V and hot-plug support and adds pre-emphasis, in order to achieve higher speeds. MSIODs provide programmable drive strength, weak pull-up, and weak pull-down. MSIOD I/O cells (See Datasheet)", AK26 MSIOD269NB13 (io) "MSIOD is very similar to MSIO, but drops 3.3 V and hot-plug support and adds pre-emphasis, in order to achieve higher speeds. MSIODs provide programmable drive strength, weak pull-up, and weak pull-down. MSIOD I/O cells (See Datasheet)"
part N pins: AG27 MSIO267NB14 (io) "MSIOs provide programmable drive strength, weak pull-up, and weak-pulldown.In single ended mode, the I/O pair operates as two separate I/Os named P and N. Some of these pins are also multiplexed with integrated peripherals (See Datasheet)", AG28 MSIO263NB14 (io) "MSIOs provide programmable drive strength, weak pull-up, and weak-pulldown.In single ended mode, the I/O pair operates as two separate I/Os named P and N. Some of these pins are also multiplexed with integrated peripherals (See Datasheet)", AG29 MSIO263PB14 (io) "MSIOs provide programmable drive strength, weak pull-up, and weak-pulldown.In single ended mode, the I/O pair operates as two separate I/Os named P and N. Some of these pins are also multiplexed with integrated peripherals (See Datasheet)", AH28 MSIO267PB14/CCC_SW0_CLKI2 (io), AH29 MSIO266PB14 (io) "MSIOs provide programmable drive strength, weak pull-up, and weak-pulldown.In single ended mode, the I/O pair operates as two separate I/Os named P and N. Some of these pins are also multiplexed with integrated peripherals (See Datasheet)", AH30 MSIO265NB14 (io) "MSIOs provide programmable drive strength, weak pull-up, and weak-pulldown.In single ended mode, the I/O pair operates as two separate I/Os named P and N. Some of these pins are also multiplexed with integrated peripherals (See Datasheet)", AH31 MSIO265PB14 (io) "MSIOs provide programmable drive strength, weak pull-up, and weak-pulldown.In single ended mode, the I/O pair operates as two separate I/Os named P and N. Some of these pins are also multiplexed with integrated peripherals (See Datasheet)", AH32 MSIO264PB14 (io) "MSIOs provide programmable drive strength, weak pull-up, and weak-pulldown.In single ended mode, the I/O pair operates as two separate I/Os named P and N. Some of these pins are also multiplexed with integrated peripherals (See Datasheet)", AJ28 MSIO268NB14 (io) "MSIOs provide programmable drive strength, weak pull-up, and weak-pulldown.In single ended mode, the I/O pair operates as two separate I/Os named P and N. Some of these pins are also multiplexed with integrated peripherals (See Datasheet)", AJ29 MSIO268PB14/GB3/CCC_SW0_CLKI3 (io), AJ30 MSIO266NB14 (io) "MSIOs provide programmable drive strength, weak pull-up, and weak-pulldown.In single ended mode, the I/O pair operates as two separate I/Os named P and N. Some of these pins are also multiplexed with integrated peripherals (See Datasheet)", AJ32 MSIO264NB14 (io) "MSIOs provide programmable drive strength, weak pull-up, and weak-pulldown.In single ended mode, the I/O pair operates as two separate I/Os named P and N. Some of these pins are also multiplexed with integrated peripherals (See Datasheet)", AJ33 MSIO262NB14 (io) "MSIOs provide programmable drive strength, weak pull-up, and weak-pulldown.In single ended mode, the I/O pair operates as two separate I/Os named P and N. Some of these pins are also multiplexed with integrated peripherals (See Datasheet)", AJ34 MSIO262PB14 (io) "MSIOs provide programmable drive strength, weak pull-up, and weak-pulldown.In single ended mode, the I/O pair operates as two separate I/Os named P and N. Some of these pins are also multiplexed with integrated peripherals (See Datasheet)"